# Altium footprint library Hello.PcbLib: 234 footprints (part 12 of 15)
Each footprint in its own frame and in the unit in brackets; x right, y up, seen from the top. Pads: shape width x height; smd on the part's side, far side on the other; paste and mask are expansions set on the pad; w line width, h text height; cw(c..) or ccw(c..) is an arc to the next point about the centre after c.
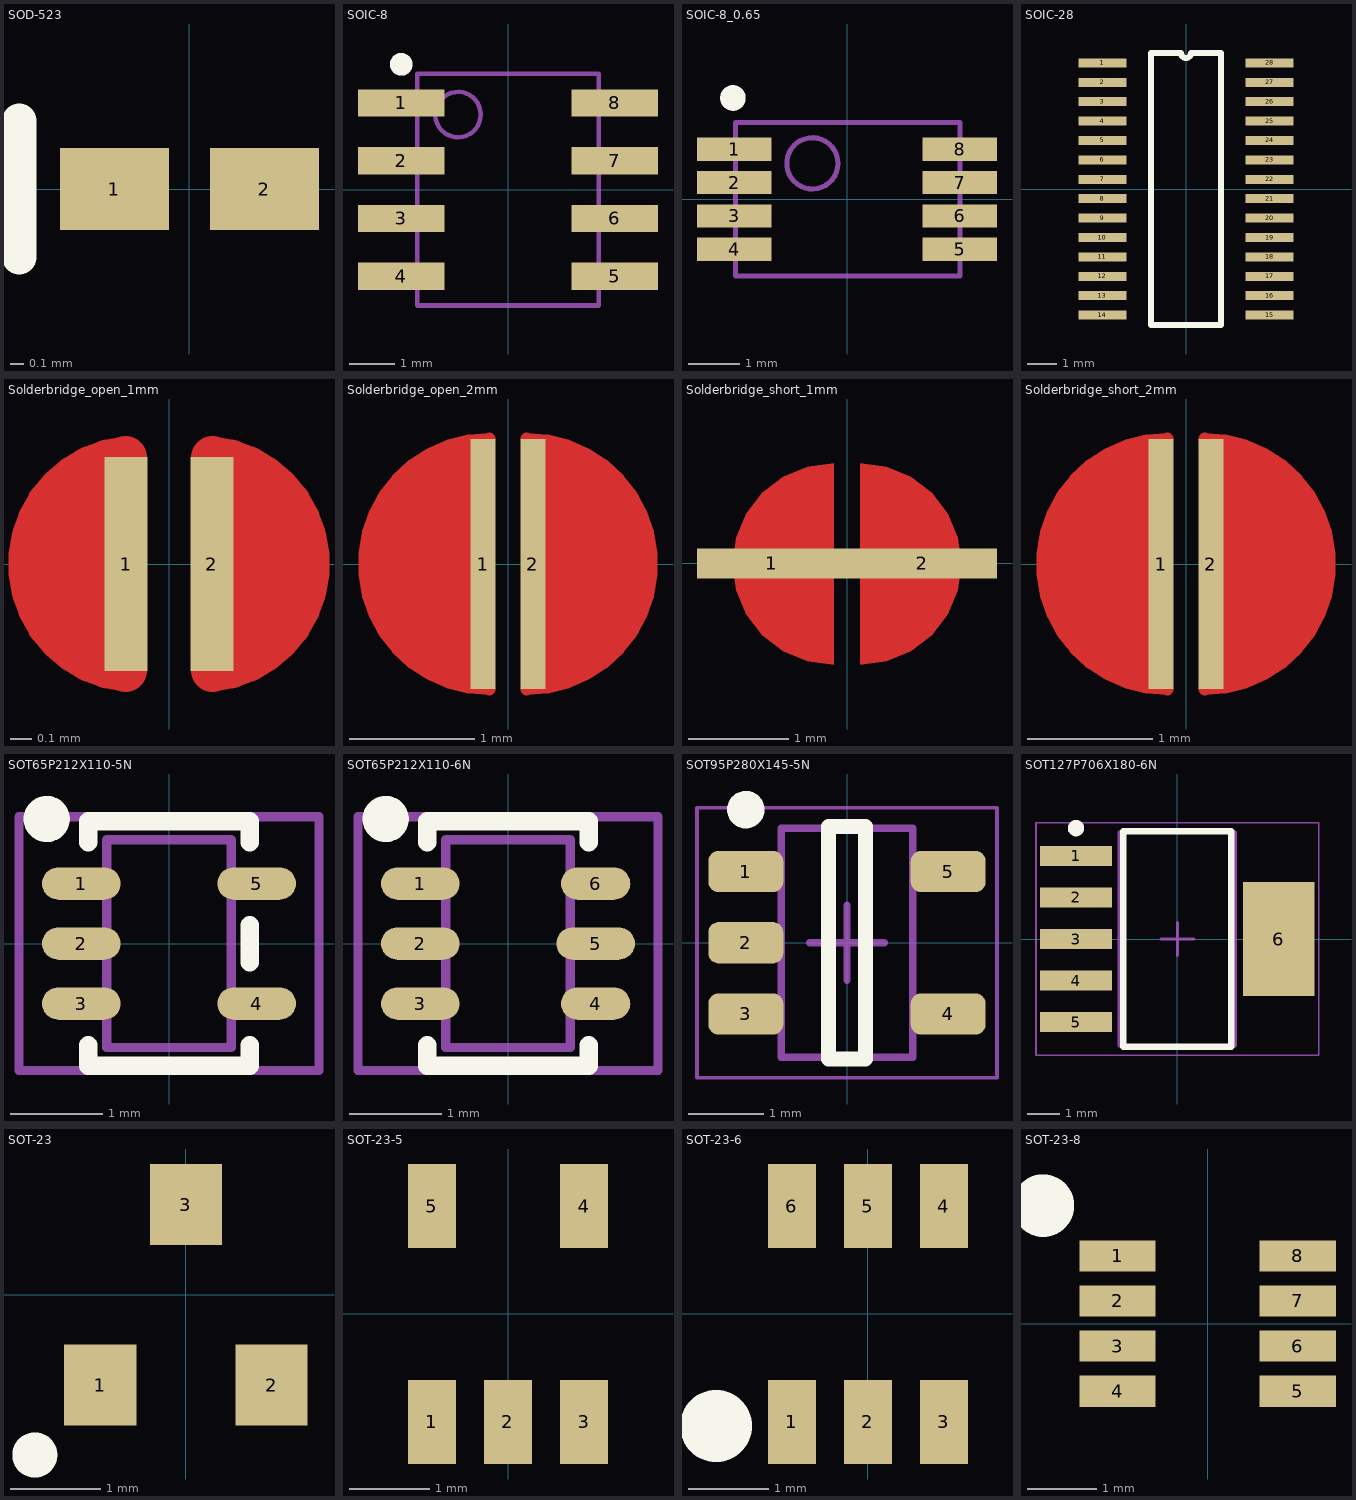
[diagram p11: the footprints below, top view; thin cyan lines are the x and y axes]

## SOD-523 [mm] "Diode small package"
height 0.65
pads (2):
  rect 0.8x0.6 smd: 1(-0.55,0) 2(0.55,0)
Top Overlay:
  lines w0.254: -1.25,-0.5 -1.25,0.5
3D body: height 0.65, standoff 0.17, extent -1.125,-0.6 1.125,0.6

## SOIC-8 [mm] "SOIC, 8-Leads, Body 4.92x3.90mm, Pitch 1.27mm, IPC High Density"
height 1.75
pads (8):
  rect 1.9x0.6 smd: 1(-2.35,1.905) 2(-2.35,0.635) 3(-2.35,-0.635) 4(-2.35,-1.905) 5(2.35,-1.905) 6(2.35,-0.635) 7(2.35,0.635) 8(2.35,1.905)
Top Overlay:
  circle w0.25: c-2.35,2.755 r0.125
Mechanical 13:
  circle w0.1: c-1.1,1.65 r0.5
  lines w0.1: -2,-2.55 2,-2.55 2,2.55 -2,2.55 -2,-2.55
3D body: height 1.75, standoff 0.1, extent -2,-2.55 2,2.55

## SOIC-8_0.65 [mm] "SOIC, 8-Leads, Body 4.92x3.90mm, Pitch 0.65mm, IPC High Density"
height 1.75
pads (8):
  rect 1.45x0.45 smd: 1(-2.2,0.975) 2(-2.2,0.325) 3(-2.2,-0.325) 4(-2.2,-0.975) 5(2.2,-0.975) 6(2.2,-0.325) 7(2.2,0.325) 8(2.2,0.975)
Top Overlay:
  circle w0.25: c-2.225,1.975 r0.125
Mechanical 13:
  circle w0.1: c-0.675,0.7 r0.5
  lines w0.1: -2.175,-1.5 -2.175,1.5 2.2,1.5 2.2,-1.5 -2.175,-1.5
3D body: height 1.75, standoff 0.25, extent -2.175,-1.5 2.2,1.5

## SOIC-28 [mm]
pads (28):
  rect 1.6x0.3 smd: 1(-2.8,4.225) 2(-2.8,3.575) 3(-2.8,2.925) 4(-2.8,2.275) 5(-2.8,1.625) 6(-2.8,0.975) 7(-2.8,0.325) 8(-2.8,-0.325) 9(-2.8,-0.975) 10(-2.8,-1.625) 11(-2.8,-2.275) 12(-2.8,-2.925) 13(-2.8,-3.575) 14(-2.8,-4.225) 15(2.8,-4.225) 16(2.8,-3.575) 17(2.8,-2.925) 18(2.8,-2.275) 19(2.8,-1.625) 20(2.8,-0.975) 21(2.8,-0.325) 22(2.8,0.325) 23(2.8,0.975) 24(2.8,1.625) 25(2.8,2.275) 26(2.8,2.925) 27(2.8,3.575) 28(2.8,4.225)
Top Overlay:
  lines w0.2: -1.165,-4.55 1.165,-4.55 1.165,4.55 0.162,4.55 cw(c0,4.55) -0.162,4.55 -1.165,4.55 -1.165,-4.55

## Solderbridge_open_1mm [mm] "Solderbridge for debugging"
pads (2):
  rect 0.2x1 smd paste-2: 1(-0.2,0) 2(0.2,0)
Top Layer:
  region: -0.3,0.38 -0.407,0.359 -0.498,0.298 -0.559,0.207 -0.58,0.1 -0.575,0.1 -0.58,-0.1 -0.559,-0.207 -0.498,-0.298 -0.407,-0.359 -0.3,-0.38 -0.3,-0.375
  region: 0.3,0.38 0.407,0.359 0.498,0.298 0.559,0.207 0.58,0.1 0.575,0.1 0.58,-0.1 0.559,-0.207 0.498,-0.298 0.407,-0.359 0.3,-0.38 0.3,-0.375
  lines w0.2: -0.202,-0.497 cw(c-0.15,0) -0.202,0.497 ; 0.202,-0.497 ccw(c0.15,0) 0.202,0.497

## Solderbridge_open_2mm [mm] "Solderbridge for debugging"
pads (2):
  rect 0.2x2 smd paste-2: 1(-0.2,0) 2(0.2,0)
Top Layer:
  region: 0.275,0.975 0.275,-0.982 0.497,-0.953 0.704,-0.867 0.881,-0.731 1.017,-0.554 1.103,-0.347 1.132,-0.125 1.125,-0.125 1.132,0.125 1.103,0.347 1.017,0.554 0.881,0.731 0.704,0.867 0.497,0.953 0.275,0.982
  region: -0.275,0.975 -0.275,-0.982 -0.497,-0.953 -0.704,-0.867 -0.881,-0.731 -1.017,-0.554 -1.103,-0.347 -1.132,-0.125 -1.125,-0.125 -1.132,0.125 -1.103,0.347 -1.017,0.554 -0.881,0.731 -0.704,0.867 -0.497,0.953 -0.275,0.982
  lines w0.1: -0.15,-1 cw(c-0.15,0) -0.15,1 ; 0.15,-1 ccw(c0.15,0) 0.15,1

## Solderbridge_short_1mm [mm] "Solderbridge for debugging"
pads (2):
  rect 1.5x0.3 smd paste-2 mask-2: 1(-0.75,0) 2(0.75,0)
Top Layer:
  region: 0.134,1.003 0.395,0.969 0.638,0.868 0.847,0.708 1.007,0.499 1.108,0.256 1.142,-0.006 1.108,-0.267 1.007,-0.51 0.847,-0.719 0.638,-0.879 0.395,-0.98 0.134,-1.014 0.134,-1.006
  region: -0.134,1.003 -0.395,0.969 -0.638,0.868 -0.847,0.708 -1.007,0.499 -1.108,0.256 -1.142,-0.006 -1.108,-0.267 -1.007,-0.51 -0.847,-0.719 -0.638,-0.879 -0.395,-0.98 -0.134,-1.014 -0.134,-1.006

## Solderbridge_short_2mm [mm] "Solderbridge for debugging"
pads (2):
  rect 0.2x2 smd paste-2: 1(-0.2,0) 2(0.2,0)
Top Layer:
  region: 0.275,0.975 0.275,-0.982 0.497,-0.953 0.704,-0.867 0.881,-0.731 1.017,-0.554 1.103,-0.347 1.132,-0.125 1.125,-0.125 1.132,0.125 1.103,0.347 1.017,0.554 0.881,0.731 0.704,0.867 0.497,0.953 0.275,0.982
  region: -0.275,0.975 -0.275,-0.982 -0.497,-0.953 -0.704,-0.867 -0.881,-0.731 -1.017,-0.554 -1.103,-0.347 -1.132,-0.125 -1.125,-0.125 -1.132,0.125 -1.103,0.347 -1.017,0.554 -0.881,0.731 -0.704,0.867 -0.497,0.953 -0.275,0.982
  lines w0.1: -0.15,-1 cw(c-0.15,0) -0.15,1 ; 0.15,-1 ccw(c0.15,0) 0.15,1

## SOT65P212X110-5N [mm] "SOT23, 5-Leads, Body 2.3x2.3mm (max), Pitch 0.65mm, IPC Medium Density"
height 1.1
pads (5):
  oval 0.85x0.35 smd: 1(-0.95,0.65) 2(-0.95,0) 3(-0.95,-0.65) 4(0.95,-0.65) 5(0.95,0.65)
Top Overlay:
  circle w0.25: c-1.325,1.35 r0.125
  lines w0.2: -0.875,-1.1 -0.875,-1.325 0.875,-1.325 0.875,-1.1 ; -0.875,1.1 -0.875,1.325 0.875,1.325 0.875,1.1 ; 0.875,-0.2 0.875,0.2
Mechanical 13:
  lines w0.1: -0.675,1.125 0.675,1.125 ; -0.675,-1.125 -0.675,1.125 0.675,1.125 0.675,-1.125 -0.675,-1.125
Mechanical 15:
  lines w0.1: -1.625,-1.375 -1.625,1.375 1.625,1.375 1.625,-1.375 -1.625,-1.375
3D body: height 1.1, standoff 0, extent -0.675,-1.125 0.675,1.125

## SOT65P212X110-6N [mm] "SOT23, 6-Leads, Body 2.3x2.3mm (max), Pitch 0.65mm, IPC Medium Density"
height 1.1
pads (6):
  oval 0.85x0.35 smd: 1(-0.95,0.65) 2(-0.95,0) 3(-0.95,-0.65) 5(0.95,0)
  oval 0.75x0.35 smd: 4(0.95,-0.65) 6(0.95,0.65)
Top Overlay:
  circle w0.25: c-1.325,1.35 r0.125
  lines w0.2: -0.875,-1.1 -0.875,-1.325 0.875,-1.325 0.875,-1.1 ; -0.875,1.1 -0.875,1.325 0.875,1.325 0.875,1.1
Mechanical 13:
  lines w0.1: -0.675,1.125 0.675,1.125 ; -0.675,-1.125 -0.675,1.125 0.675,1.125 0.675,-1.125 -0.675,-1.125
Mechanical 15:
  lines w0.1: -1.625,-1.375 -1.625,1.375 1.625,1.375 1.625,-1.375 -1.625,-1.375
3D body: height 1.1, standoff 0, extent -0.675,-1.125 0.675,1.125

## SOT95P280X145-5N [mm] "SOT23, 5-Leads, Body 2.90x2.80mm, Pitch 0.95mm, IPC Medium Density"
height 1.45
pads (5):
  rrect50% 1x0.55 smd: 1(-1.35,0.95) 2(-1.35,0) 3(-1.35,-0.95) 4(1.35,-0.95) 5(1.35,0.95)
Top Overlay:
  circle w0.25: c-1.35,1.775 r0.125
  lines w0.2: -0.25,-1.55 0.25,-1.55 0.25,1.55 -0.25,1.55 -0.25,-1.55
Mechanical 13:
  lines w0.1: -0.875,-1.525 -0.875,1.525 0.875,1.525 0.875,-1.525 -0.875,-1.525
Mechanical 15:
  lines w0.05: -2,-1.8 -2,1.8 2,1.8 2,-1.8 -2,-1.8
  lines w0.1: -0.5,0 0.5,0 ; 0,-0.5 0,0.5
3D body: height 1.45, standoff 0, extent -0.875,-1.525 0.875,1.525

## SOT127P706X180-6N [mm] "SOT223, 6-Leads, Body 6.50x7.06mm (avg), Pitch 1.27mm, IPC Medium Density"
height 1.8
pads (6):
  rect 2.2x0.6 smd: 1(-3.1,2.54) 2(-3.1,1.27) 3(-3.1,0) 4(-3.1,-1.27) 5(-3.1,-2.54)
  rect 2.2x3.5 smd: 6(3.1,0)
Top Overlay:
  circle w0.25: c-3.1,3.39 r0.125
  lines w0.2: -1.65,-3.3 1.65,-3.3 1.65,3.3 -1.65,3.3 -1.65,-3.3
Mechanical 13:
  lines w0.1: -1.775,-3.275 1.775,-3.275 1.775,3.275 -1.775,3.275 -1.775,-3.275
Mechanical 15:
  lines w0.05: -4.325,-3.55 4.325,-3.55 4.325,3.55 -4.325,3.55 -4.325,-3.55
  lines w0.1: -0.5,0 0.5,0 ; 0,-0.5 0,0.5
3D body: height 1.8, standoff 0.02, extent -1.775,-3.275 1.775,3.275

## SOT-23 [mm]
pads (3):
  rect 0.8x0.9 smd paste-0.1: 1(-0.95,-1) 2(0.95,-1) 3(0,1)
Top Overlay:
  circle w0.3: c-1.675,-1.775 r0.1
3D body: height 1.15, standoff 0.1, extent -1.25,-1.025 1.25,0.875

## SOT-23-5 [mm] "SOT-23 5 pin, 0.95mm pitch, IPC Medium density"
height 1.45
pads (5):
  rect 0.6x1.05 smd paste-0.1: 1(-0.95,-1.35) 2(0,-1.35) 3(0.95,-1.35) 4(0.95,1.35) 5(-0.95,1.35)
3D body: height 1.45, standoff 0.15, extent -1.525,-0.875 1.525,0.875

## SOT-23-6 [mm] "SOT-23 6 pin, 0.95mm pitch, IPC Medium density"
height 1.45
pads (6):
  rect 0.6x1.05 smd paste-0.1: 1(-0.95,-1.35) 2(0,-1.35) 3(0.95,-1.35) 4(0.95,1.35) 5(0,1.35) 6(-0.95,1.35)
Top Overlay:
  circle w0.7: c-1.9,-1.4 r0.1
3D body: height 1.45, standoff 0.15, extent -1.525,-0.875 1.525,0.875

## SOT-23-8 [mm] "SOT-23, 8-Leads, Body 3.00x3.00mm, Pitch 0.65mm, IPC Medium Density"
height 1.45
pads (8):
  rect 1.1x0.45 smd: 1(-1.3,0.975) 2(-1.3,0.325) 3(-1.3,-0.325) 4(-1.3,-0.975) 5(1.3,-0.975) 6(1.3,-0.325) 7(1.3,0.325) 8(1.3,0.975)
Top Overlay:
  circle w0.7: c-2.375,1.7 r0.1
3D body: height 1.45, standoff 0.1, extent -1.5,-1.5 1.5,1.5